# EAGLE library part UC530M (library laforge)
u-blox UC530M GNSS module
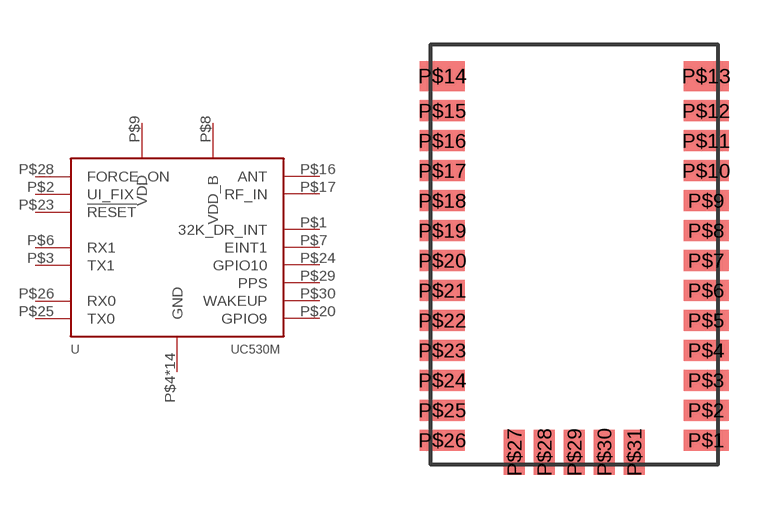
[diagram p40: symbol with the pads of UC530M; footprint UC530M]

Designator prefix -

## UC530M  [UC530M]
P$1  32K_DR_INT
P$2  UI_FIX  out
P$3  TX1  out
P$4  GND
P$5  GND
P$6  RX1  in
P$7  EINT1
P$8  VDD_B  pas
P$9  VDD  pas
P$10  GND
P$11  GND
P$12  GND
P$13  GND
P$14  GND
P$15  GND
P$16  ANT  out
P$17  RF_IN  in
P$18  GND
P$19  GND
P$20  GPIO9
P$21  GND
P$22  GND
P$23  !RESET  in
P$24  GPIO10
P$25  TX0  out
P$26  RX0  in
P$27  GND
P$28  FORCE_ON  in
P$29  PPS  out
P$30  WAKEUP
P$31  GND

## Footprint UC530M (pad centres in mm)
u-blox UC530M Data Sheet FTX-HW-12007-A Figure 8 and Figure 7
smd 1.5 x 0.7: P$1 4.4,-6.2; P$2 4.4,-5.2; P$3 4.4,-4.2; P$4 4.4,-3.2; P$5 4.4,-2.2; P$6 4.4,-1.2; P$7 4.4,-0.2; P$8 4.4,0.8; P$9 4.4,1.8; P$10 4.4,2.8; P$11 4.4,3.8; P$12 4.4,4.8; P$15 -4.4,4.8; P$16 -4.4,3.8; P$17 -4.4,2.8; P$18 -4.4,1.8; P$19 -4.4,0.8; P$20 -4.4,-0.2; P$21 -4.4,-1.2; P$22 -4.4,-2.2; P$23 -4.4,-3.2; P$24 -4.4,-4.2; P$25 -4.4,-5.2; P$26 -4.4,-6.2
smd 1.5 x 1: P$13 4.4,5.95; P$14 -4.4,5.95
smd 0.7 x 1.5: P$27 -2,-6.6; P$28 -1,-6.6; P$29 0,-6.6; P$30 1,-6.6; P$31 2,-6.6